# Altium footprint library 19inch (2).PCBLIB: 26 footprints (part 3 of 3)
Each footprint in its own frame and in the unit in brackets; x right, y up, seen from the top. Pads: shape width x height; smd on the part's side, far side on the other; paste and mask are expansions set on the pad; w line width, h text height; cw(c..) or ccw(c..) is an arc to the next point about the centre after c.
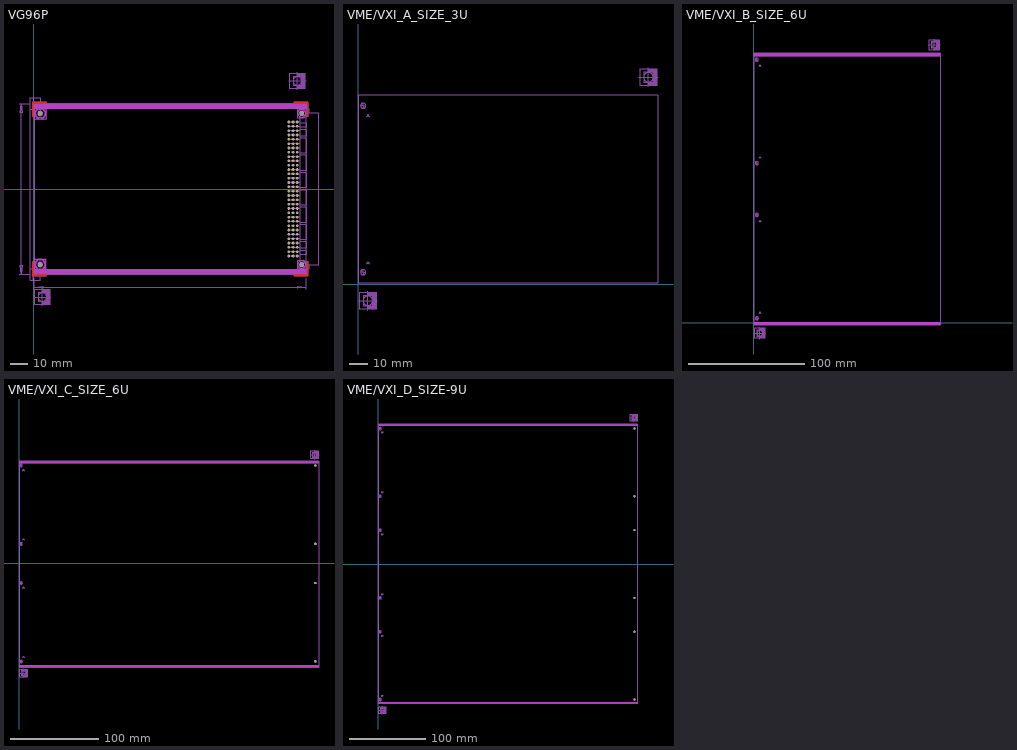
[diagram p2: the footprints below, top view; thin cyan lines are the x and y axes]

## VG96P [mil]
pads (100):
  round 110 hole 110: 1(150,-1750) 1(150,1750) 1(6200,-1750) 1(6200,1750)
  round 63 hole 36: A1(6100,1550)
  oct 61x61 hole 36: A2(6100,1450) A3(6100,1350) A4(6100,1250) A5(6100,1150) A6(6100,1050) A7(6100,950) A8(6100,850) A9(6100,750) A10(6100,650) A11(6100,550) A12(6100,450) A13(6100,350) A14(6100,250) A15(6100,150) A16(6100,50) A17(6100,-50) A18(6100,-150) A19(6100,-250) A20(6100,-350) A21(6100,-450) A22(6100,-550) A23(6100,-650) A24(6100,-750) A25(6100,-850) A26(6100,-950) A27(6100,-1050) A28(6100,-1150) A29(6100,-1250) A30(6100,-1350) A31(6100,-1450) A32(6100,-1550) B1(6000,1550) B2(6000,1450) B3(6000,1350) B4(6000,1250) B5(6000,1150) B6(6000,1050) B7(6000,950) B8(6000,850) B9(6000,750) B10(6000,650) B11(6000,550) B12(6000,450) B13(6000,350) B14(6000,250) B15(6000,150) B16(6000,50) B17(6000,-50) B18(6000,-150) B19(6000,-250) B20(6000,-350) B21(6000,-450) B22(6000,-550) B23(6000,-650) B24(6000,-750) B25(6000,-850) B26(6000,-950) B27(6000,-1050) B28(6000,-1150) B29(6000,-1250) B30(6000,-1350) B31(6000,-1450) B32(6000,-1550) C1(5900,1550) C2(5900,1450) C3(5900,1350) C4(5900,1250) C5(5900,1150) C6(5900,1050) C7(5900,950) C8(5900,850) C9(5900,750) C10(5900,650) C11(5900,550) C12(5900,450) C13(5900,350) C14(5900,250) C15(5900,150) C16(5900,50) C17(5900,-50) C18(5900,-150) C19(5900,-250) C20(5900,-350) C21(5900,-450) C22(5900,-550) C23(5900,-650) C24(5900,-750) C25(5900,-850) C26(5900,-950) C27(5900,-1050) C28(5900,-1150) C29(5900,-1250) C30(5900,-1350) C31(5900,-1450) C32(5900,-1550)
Top Layer:
  lines w50: -15,-1694 -15,-1994 285,-1994 ; -15,1694 -15,1994 285,1994 ; 6035,-1994 6335,-1994 6335,-1694 ; 6035,1994 6335,1994 6335,1694
Bottom Layer:
  lines w50: -15,-1694 -15,-1994 285,-1994 ; -15,1694 -15,1994 285,1994 ; 6035,-1994 6335,-1994 6335,-1694 ; 6035,1994 6335,1994 6335,1694
Top Solder:
  lines w6: 10,-1669 10,-1969 310,-1969 ; 10,1669 10,1969 310,1969 ; 6010,-1969 6310,-1969 6310,-1669 ; 6010,1969 6310,1969 6310,1669
Bottom Solder:
  lines w6: 10,-1669 10,-1969 310,-1969 ; 10,1669 10,1969 310,1969 ; 6010,-1969 6310,-1969 6310,-1669 ; 6010,1969 6310,1969 6310,1669
Keep-Out Layer:
  rectangle: 10,1850 6310,1969
  rectangle: 10,1850 6310,1969
  rectangle: 10,-1969 6310,-1850
  rectangle: 10,-1969 6310,-1850
  lines w2: 10,-1615 285,-1615 ; 10,-1615 10,-1969 10,-1615 ; 10,-1615 285,-1615 ; 10,1615 285,1615 ; 10,1615 10,1969 10,1615 ; 10,1615 285,1615 ; 285,-1615 285,-1850 285,-1615 ; 285,1615 285,1850 285,1615 ; 6310,-1969 6310,-1850 6310,-1969 ; 6310,1850 6310,1969 6310,1850
Mechanical 1:
  lines w0: 10,-1969 6310,-1969 6310,1969 10,1969 10,-1969
Mechanical 2:
  drawing of 202 lines, arcs and shapes, not listed
Mechanical 11 keep-out:
  circle w0: c150,1750 r125
  circle w0: c150,-1750 r125
  circle w0: c6200,1750 r90
  circle w0: c6200,-1750 r90
Mechanical 12:
  circle w0: c150,1750 r125
  circle w0: c150,-1750 r125
  circle w0: c6200,1750 r90
  circle w0: c6200,-1750 r90
  rectangle: 10,1850 6310,1969
  rectangle: 10,-1969 6310,-1850
Mechanical 14:
  lines w6: -340,-1969 -290,-1969 ; -340,1969 -290,1969 ; -90,-1969 -290,-1969 ; -90,1969 -290,1969 ; 10,-2319 10,-2269 ; 10,-2069 10,-2269 ; 10,-1669 10,-1969 310,-1969 ; 10,1669 10,1969 310,1969 ; 6010,-1969 6310,-1969 6310,-1669 ; 6010,1969 6310,1969 6310,1669 ; 6310,-2319 6310,-2269 ; 6310,-2069 6310,-2269 ; -290,-1969 -290,1969 ; -290,-1969 -315,-1769 -265,-1769 -290,-1969 ; -290,1969 -265,1769 -315,1769 -290,1969 ; 10,-2269 6310,-2269 ; 10,-2269 210,-2244 210,-2294 10,-2269 ; 6310,-2269 6110,-2294 6110,-2244 6310,-2269
Mechanical 16:
  circle w10: c6100,2499 r100
  circle w10: c200,-2499 r100
  rectangle: 6100,2324 6275,2399
  rectangle: 6200,2399 6275,2599
  rectangle: 6100,2599 6275,2674
  rectangle: 200,-2674 375,-2599
  rectangle: 300,-2599 375,-2399
  rectangle: 200,-2399 375,-2324
  lines w4: 0,-2499 25,-2499 400,-2499 ; 200,-2699 200,-2299 ; 5900,2499 5925,2499 6300,2499 ; 6100,2299 6100,2699
  lines w10: 25,-2674 375,-2674 375,-2324 25,-2324 25,-2499 25,-2674 ; 100,-2599 100,-2399 300,-2399 300,-2599 100,-2599 ; 5925,2324 6275,2324 6275,2674 5925,2674 5925,2499 5925,2324 ; 6000,2399 6000,2599 6200,2599 6200,2399 6000,2399
Mechanical 18:
  rectangle: 6065,1540 6135,1560
  rectangle: 5890,1540 5935,1560
  rectangle: 6065,1440 6135,1460
  rectangle: 5890,1440 5935,1460
  rectangle: 5890,1340 5935,1360
  rectangle: 6065,1340 6135,1360
  rectangle: 6065,1240 6135,1260
  rectangle: 5890,1240 5935,1260
  rectangle: 6065,1140 6135,1160
  rectangle: 6065,1040 6135,1060
  rectangle: 5890,1140 5935,1160
  rectangle: 5890,1040 5935,1060
  rectangle: 5890,940 5935,960
  rectangle: 6065,940 6135,960
  rectangle: 6065,840 6135,860
  rectangle: 5890,840 5935,860
  rectangle: 6065,740 6135,760
  rectangle: 5890,740 5935,760
  rectangle: 6065,640 6135,660
  rectangle: 5890,640 5935,660
  rectangle: 5890,540 5935,560
  rectangle: 6065,540 6135,560
  rectangle: 6065,440 6135,460
  rectangle: 6065,340 6135,360
  rectangle: 5890,440 5935,460
  rectangle: 5890,340 5935,360
  rectangle: 5890,240 5935,260
  rectangle: 6065,240 6135,260
  rectangle: 6065,140 6135,160
  rectangle: 5890,140 5935,160
  rectangle: 5890,40 5935,60
  rectangle: 6065,40 6135,60
  rectangle: 6065,-60 6135,-40
  rectangle: 5890,-60 5935,-40
  rectangle: 6065,-160 6135,-140
  rectangle: 5890,-160 5935,-140
  rectangle: 6065,-260 6135,-240
  rectangle: 5890,-260 5935,-240
  rectangle: 5890,-360 5935,-340
  rectangle: 6065,-360 6135,-340
  rectangle: 6065,-460 6135,-440
  rectangle: 5890,-460 5935,-440
  rectangle: 6065,-660 6135,-640
  rectangle: 5890,-660 5935,-640
  rectangle: 6065,-560 6135,-540
  rectangle: 5890,-560 5935,-540
  rectangle: 6065,-760 6135,-740
  rectangle: 5890,-760 5935,-740
  rectangle: 5890,-860 5935,-840
  rectangle: 6065,-860 6135,-840
  rectangle: 6065,-960 6135,-940
  rectangle: 5890,-960 5935,-940
  rectangle: 6065,-1060 6135,-1040
  rectangle: 5890,-1060 5935,-1040
  rectangle: 6065,-1160 6135,-1140
  rectangle: 5890,-1160 5935,-1140
  rectangle: 5890,-1260 5935,-1240
  rectangle: 6065,-1260 6135,-1240
  rectangle: 6065,-1360 6135,-1340
  rectangle: 5890,-1360 5935,-1340
  rectangle: 5890,-1460 5935,-1440
  rectangle: 6065,-1460 6135,-1440
  rectangle: 6065,-1560 6135,-1540
  rectangle: 5890,-1560 5935,-1540
  rectangle: 5965,-1560 6035,-1540
  rectangle: 5965,-1460 6035,-1440
  rectangle: 5965,-1360 6035,-1340
  rectangle: 5965,-1260 6035,-1240
  rectangle: 5965,-1160 6035,-1140
  rectangle: 5965,-1060 6035,-1040
  rectangle: 5965,-960 6035,-940
  rectangle: 5965,-860 6035,-840
  rectangle: 5965,-760 6035,-740
  rectangle: 5965,-660 6035,-640
  rectangle: 5965,-560 6035,-540
  rectangle: 5965,-460 6035,-440
  rectangle: 5965,-360 6035,-340
  rectangle: 5965,-260 6035,-240
  rectangle: 5965,-160 6035,-140
  rectangle: 5965,-60 6035,-40
  rectangle: 5965,40 6035,60
  rectangle: 5965,140 6035,160
  rectangle: 5965,240 6035,260
  rectangle: 5965,340 6035,360
  rectangle: 5965,440 6035,460
  rectangle: 5965,540 6035,560
  rectangle: 5965,640 6035,660
  rectangle: 5965,740 6035,760
  rectangle: 5965,840 6035,860
  rectangle: 5965,940 6035,960
  rectangle: 5965,1040 6035,1060
  rectangle: 5965,1140 6035,1160
  rectangle: 5965,1240 6035,1260
  rectangle: 5965,1340 6035,1360
  rectangle: 5965,1440 6035,1460
  rectangle: 5965,1540 6035,1560

## VME/VXI_A_SIZE_3U [mil]
Mechanical 1:
  lines w0: -8.46,31.5 -8.46,3968.5 6290.75,3968.5 6290.75,31.5 -8.46,31.5
Mechanical 16:
  circle w0.04: c99.76,3750 r55
  circle w0.04: c99.76,250 r55
  circle w10: c200,-349 r100
  circle w10: c6100,4351 r100
  rectangle: 200,-524 375,-449
  rectangle: 300,-449 375,-249
  rectangle: 200,-249 375,-174
  rectangle: 6100,4176 6275,4251
  rectangle: 6200,4251 6275,4451
  rectangle: 6100,4451 6275,4526
  lines w0: 42.79,250 99.76,250 ; 42.79,3750 99.76,3750 ; 99.76,193.46 99.76,250 ; 99.76,307.64 99.76,250 ; 99.76,3693.46 99.76,3750 ; 99.76,3806.98 99.76,3750 ; 157.18,250 99.76,250 ; 157.4,3750 99.76,3750 ; 175,425 225,475 ; 175,475 225,425 ; 175,3525 225,3575 ; 175,3575 225,3525
  lines w4: 0,-349 25,-349 400,-349 ; 200,-549 200,-149 ; 5900,4351 5925,4351 6300,4351 ; 6100,4151 6100,4551
  lines w10: 25,-524 375,-524 375,-174 25,-174 25,-349 25,-524 ; 100,-449 100,-249 300,-249 300,-449 100,-449 ; 5925,4176 6275,4176 6275,4526 5925,4526 5925,4351 5925,4176 ; 6000,4251 6000,4451 6200,4451 6200,4251 6000,4251

## VME/VXI_B_SIZE_6U [mil]
Mechanical 1:
  lines w0: 99.76,8845.43 99.76,8900 155.43,8900 ; -0.24,-68 -0.24,9114 6298.98,9114 6298.98,-68 -0.24,-68
Mechanical 10 keep-out:
  rectangle: -0.24,9015.57 6298.98,9114
  rectangle: -0.24,-68 6298.98,30.43
Mechanical 11 keep-out:
  rectangle: -0.24,9015.57 6298.98,9114
  rectangle: -0.24,-68 6298.98,30.43
Mechanical 16:
  circle w0.04: c99.76,3650 r55
  circle w0.04: c99.76,5400 r55
  circle w0.04: c99.76,8900 r55
  circle w0.04: c99.76,150 r55
  circle w10: c200,-349 r100
  circle w10: c6100,9401 r100
  rectangle: 200,-524 375,-449
  rectangle: 300,-449 375,-249
  rectangle: 200,-249 375,-174
  rectangle: 6100,9226 6275,9301
  rectangle: 6200,9301 6275,9501
  rectangle: 6100,9501 6275,9576
  lines w0: 42.79,150 99.76,150 ; 42.79,3650 99.76,3650 ; 44.76,5400 99.76,5400 ; 44.76,8900 99.76,8900 99.76,8955.01 ; 99.76,93.46 99.76,150 ; 99.76,207.64 99.76,150 ; 99.76,3593.46 99.76,3650 ; 99.76,3706.98 99.76,3650 ; 99.76,5345.43 99.76,5400 ; 99.76,5455.01 99.76,5400 ; 155.43,5400 99.76,5400 ; 157.18,150 99.76,150 ; 157.4,3650 99.76,3650 ; 175,325 225,375 ; 175,375 225,325 ; 175,3425 225,3475 ; 175,3475 225,3425 ; 175,5575 225,5625 ; 175,5625 225,5575 ; 175,8675 225,8725 ; 175,8725 225,8675
  lines w4: 0,-349 25,-349 400,-349 ; 200,-549 200,-149 ; 5900,9401 5925,9401 6300,9401 ; 6100,9201 6100,9601
  lines w10: 25,-524 375,-524 375,-174 25,-174 25,-349 25,-524 ; 100,-449 100,-249 300,-249 300,-449 100,-449 ; 5925,9226 6275,9226 6275,9576 5925,9576 5925,9401 5925,9226 ; 6000,9301 6000,9501 6200,9501 6200,9301 6000,9301

## VME/VXI_C_SIZE_6U [mil]
pads (4):
  round 106.3 hole 106.3: 1(13236.77,-4375) 1(13236.77,-875) 1(13236.77,875) 1(13236.77,4375)
Mechanical 1:
  lines w0: 99.76,4320.43 99.76,4375 155.43,4375 ; -0.24,4562.01 0,-4625 13385.83,-4625 13385.59,4562.01 -0.24,4562.01
Mechanical 10 keep-out:
  rectangle: -0.24,4463.58 13385.59,4562.01
  rectangle: 0,-4625 13385.83,-4526.57
Mechanical 11 keep-out:
  rectangle: -0.24,4463.58 13385.59,4562.01
  rectangle: 0,-4625 13385.83,-4526.57
Mechanical 16:
  circle w0.04: c99.76,-875 r55
  circle w0.04: c99.76,875 r55
  circle w0.04: c99.76,4375 r55
  circle w0.04: c99.76,-4375 r55
  circle w10: c200,-4899 r100
  circle w10: c13200,4851 r100
  rectangle: 200,-5074 375,-4999
  rectangle: 300,-4999 375,-4799
  rectangle: 200,-4799 375,-4724
  rectangle: 13200,4676 13375,4751
  rectangle: 13300,4751 13375,4951
  rectangle: 13200,4951 13375,5026
  lines w0: 42.79,-4375 99.76,-4375 ; 42.79,-875 99.76,-875 ; 44.76,875 99.76,875 ; 44.76,4375 99.76,4375 99.76,4430.01 ; 99.76,-4431.54 99.76,-4375 ; 99.76,-4317.36 99.76,-4375 ; 99.76,-931.54 99.76,-875 ; 99.76,-818.02 99.76,-875 ; 99.76,820.43 99.76,875 ; 99.76,930.01 99.76,875 ; 155.43,875 99.76,875 ; 157.18,-4375 99.76,-4375 ; 157.4,-875 99.76,-875 ; 175,-4200 225,-4150 ; 175,-4150 225,-4200 ; 175,-1100 225,-1050 ; 175,-1050 225,-1100 ; 175,1050 225,1100 ; 175,1100 225,1050 ; 175,4150 225,4200 ; 175,4200 225,4150
  lines w4: 0,-4899 25,-4899 400,-4899 ; 200,-5099 200,-4699 ; 13000,4851 13025,4851 13400,4851 ; 13200,4651 13200,5051
  lines w10: 25,-5074 375,-5074 375,-4724 25,-4724 25,-4899 25,-5074 ; 100,-4999 100,-4799 300,-4799 300,-4999 100,-4999 ; 13025,4676 13375,4676 13375,5026 13025,5026 13025,4851 13025,4676 ; 13100,4751 13100,4951 13300,4951 13300,4751 13100,4751

## VME/VXI_D_SIZE-9U [mil]
pads (6):
  round 106.3 hole 106.3: 1(13236.77,-7000) 1(13236.77,-3500) 1(13236.77,-1750) 1(13236.77,1750) 1(13236.77,3500) 1(13236.77,7000)
Mechanical 1:
  lines w0: 99.76,-3554.57 99.76,-3500 155.43,-3500 ; 99.76,6945.43 99.76,7000 155.43,7000 ; -0.24,-7218.5 13385.59,-7218.5 13385.59,7218.5 -0.24,7218.5 -0.24,-7218.5
Mechanical 10 keep-out:
  region: 13385.59,7218.5 -0.24,7218.5 -0.24,7120.08 13385.59,7120.08
  region: 13385.59,-7120.08 -0.24,-7120.08 -0.24,-7218.5 13385.59,-7218.5
Mechanical 11 keep-out:
  region: 13385.59,-7120.08 -0.24,-7120.08 -0.24,-7218.5 13385.59,-7218.5
  region: 13385.59,7218.5 -0.24,7218.5 -0.24,7120.08 13385.59,7120.08
Mechanical 16:
  circle w0.04: c99.76,1750 r55
  circle w0.04: c99.76,3500 r55
  circle w0.04: c99.76,7000 r55
  circle w0.04: c99.76,-1750 r55
  circle w0.04: c99.76,-7000 r55
  circle w0.04: c99.76,-3500 r55
  circle w10: c200,-7549 r100
  circle w10: c13200,7551 r100
  rectangle: 200,-7724 375,-7649
  rectangle: 300,-7649 375,-7449
  rectangle: 200,-7449 375,-7374
  rectangle: 13200,7376 13375,7451
  rectangle: 13300,7451 13375,7651
  rectangle: 13200,7651 13375,7726
  lines w0: 42.79,-1750 99.76,-1750 ; 42.79,1750 99.76,1750 ; 44.76,-7000 99.76,-7000 ; 44.76,-3500 99.76,-3500 99.76,-3444.99 ; 44.76,3500 99.76,3500 ; 44.76,7000 99.76,7000 99.76,7055.01 ; 99.76,-7054.57 99.76,-7000 ; 99.76,-6944.99 99.76,-7000 ; 99.76,-1806.54 99.76,-1750 ; 99.76,-1692.36 99.76,-1750 ; 99.76,1693.46 99.76,1750 ; 99.76,1806.98 99.76,1750 ; 99.76,3445.43 99.76,3500 ; 99.76,3555.01 99.76,3500 ; 155.43,-7000 99.76,-7000 ; 155.43,3500 99.76,3500 ; 157.18,-1750 99.76,-1750 ; 157.4,1750 99.76,1750 ; 175,-6825 225,-6775 ; 175,-6825 175,-6775 ; 175,-6825 225,-6825 ; 175,-6775 225,-6825 ; 175,-6775 225,-6775 ; 175,-3725 225,-3675 ; 175,-3725 175,-3675 ; 175,-3725 225,-3725 ; 175,-3675 225,-3725 ; 175,-3675 225,-3675 ; 175,-1575 225,-1525 ; 175,-1575 175,-1525 ; 175,-1575 225,-1575 ; 175,-1525 225,-1575 ; 175,-1525 225,-1525 ; 175,1525 225,1575 ; 175,1525 225,1525 ; 175,1525 175,1575 ; 175,1575 225,1525 ; 175,1575 225,1575 ; 175,3675 225,3725 ; 175,3675 175,3725 ; 175,3675 225,3675 ; 175,3725 225,3675 ; 175,3725 225,3725 ; 175,6775 225,6825 ; 175,6775 175,6825 ; 175,6775 225,6775 ; 175,6825 225,6775 ; 175,6825 225,6825 ; 225,-6825 225,-6775 ; 225,-3725 225,-3675 ; 225,-1575 225,-1525 ; 225,1525 225,1575 ; 225,3675 225,3725 ; 225,6775 225,6825
  lines w4: 0,-7549 25,-7549 400,-7549 ; 200,-7749 200,-7349 ; 13000,7551 13025,7551 13400,7551 ; 13200,7351 13200,7751
  lines w10: 25,-7724 375,-7724 375,-7374 25,-7374 25,-7549 25,-7724 ; 100,-7649 100,-7449 300,-7449 300,-7649 100,-7649 ; 13025,7376 13375,7376 13375,7726 13025,7726 13025,7551 13025,7376 ; 13100,7451 13100,7651 13300,7651 13300,7451 13100,7451